# EAGLE library part DISPLAY (library president_george)
Display President George
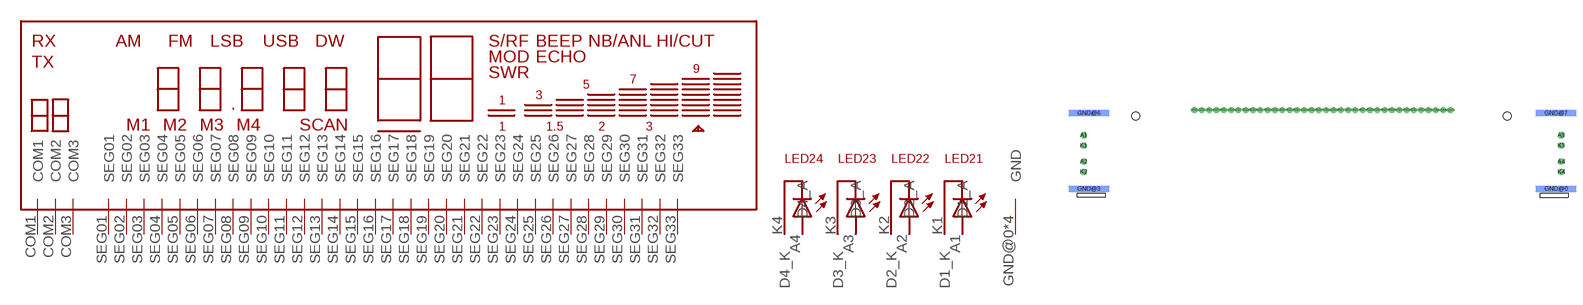
[diagram p0: symbol with the pads of DISPLAY; footprint DISPLAY]

Designator prefix -

## DISPLAY  [DISPLAY]
A1  D1_A  in
A2  D2_A  in
A3  D3_A  in
A4  D4_A  in
COM1  COM1  in
COM2  COM2  in
COM3  COM3  in
GND@0  GND  pwr
GND@3  GND  pwr
GND@6  GND  pwr
GND@7  GND  pwr
K1  D1_K  in
K2  D2_K  in
K3  D3_K  in
K4  D4_K  in
SEG01  SEG01  in
SEG02  SEG02  in
SEG03  SEG03  in
SEG04  SEG04  in
SEG05  SEG05  in
SEG06  SEG06  in
SEG07  SEG07  in
SEG08  SEG08  in
SEG09  SEG09  in
SEG10  SEG10  in
SEG11  SEG11  in
SEG12  SEG12  in
SEG13  SEG13  in
SEG14  SEG14  in
SEG15  SEG15  in
SEG16  SEG16  in
SEG17  SEG17  in
SEG18  SEG18  in
SEG19  SEG19  in
SEG20  SEG20  in
SEG21  SEG21  in
SEG22  SEG22  in
SEG23  SEG23  in
SEG24  SEG24  in
SEG25  SEG25  in
SEG26  SEG26  in
SEG27  SEG27  in
SEG28  SEG28  in
SEG29  SEG29  in
SEG30  SEG30  in
SEG31  SEG31  in
SEG32  SEG32  in
SEG33  SEG33  in

## Footprint DISPLAY (pad centres in mm)
Display President George
drill 1 octagon: A1 1.73,15.27; A2 1.73,8.77; A3 119.27,15.27; A4 119.27,8.77; K1 1.73,12.73; K2 1.73,6.23; K3 119.27,12.73; K4 119.27,6.23
drill 1: COM1 88.4,21.5; COM2 90.2,21.5; COM3 92,21.5; SEG01 29,21.5; SEG02 30.8,21.5; SEG03 32.6,21.5; SEG04 34.4,21.5; SEG05 36.2,21.5; SEG06 38,21.5; SEG07 39.8,21.5; SEG08 41.6,21.5; SEG09 43.4,21.5; SEG10 45.2,21.5; SEG11 47,21.5; SEG12 48.8,21.5; SEG13 50.6,21.5; SEG14 52.4,21.5; SEG15 54.2,21.5; SEG16 56,21.5; SEG17 57.8,21.5; SEG18 59.6,21.5; SEG19 61.4,21.5; SEG20 63.2,21.5; SEG21 65,21.5; SEG22 66.8,21.5; SEG23 68.6,21.5; SEG24 70.4,21.5; SEG25 72.2,21.5; SEG26 74,21.5; SEG27 75.8,21.5; SEG28 77.6,21.5; SEG29 79.4,21.5; SEG30 81.2,21.5; SEG31 83,21.5; SEG32 84.8,21.5; SEG33 86.6,21.5
smd 10 x 1.5 bottom: GND@0 118,2.055; GND@3 3,2.055; GND@6 3,20.695; GND@7 118,20.695
hole 2 at 14.5,20
hole 2 at 106,20